# Altium integrated library Xilinx Spartan-3 FPGA.IntLib: 1115 symbols (part 5 of 7)
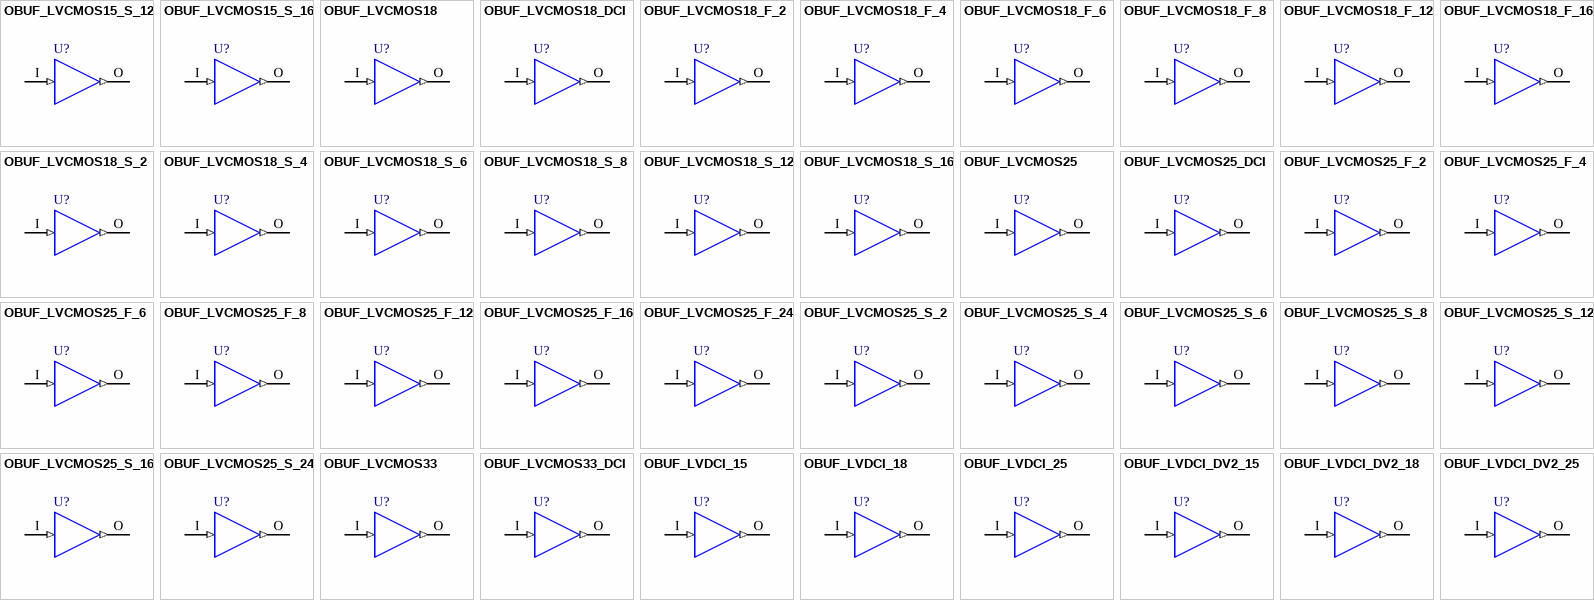
[diagram p32: symbols OBUF_LVCMOS15_S_12 to OBUF_LVDCI_DV2_25]

## OBUF_LVCMOS18_S_2
designator U?
Single Output Buffer with LVCMOS18_S_2 I/O Interface; FPGAVendor: Xilinx; Published: 15-Sep-2003; Publisher: Altium Limited; HelpURL: http://toolbox.xilinx.com/docsan/xilinx7/books/docs/lib/lib.pdf
pins: I (in), O (out)

## OBUF_LVCMOS18_S_4
designator U?
Single Output Buffer with LVCMOS18_S_4 I/O Interface; FPGAVendor: Xilinx; Published: 15-Sep-2003; Publisher: Altium Limited; HelpURL: http://toolbox.xilinx.com/docsan/xilinx7/books/docs/lib/lib.pdf
pins: I (in), O (out)

## OBUF_LVCMOS18_S_6
designator U?
Single Output Buffer with LVCMOS18_S_6 I/O Interface; FPGAVendor: Xilinx; Published: 15-Sep-2003; Publisher: Altium Limited; HelpURL: http://toolbox.xilinx.com/docsan/xilinx7/books/docs/lib/lib.pdf
pins: I (in), O (out)

## OBUF_LVCMOS18_S_8
designator U?
Single Output Buffer with LVCMOS18_S_8 I/O Interface; FPGAVendor: Xilinx; Published: 15-Sep-2003; Publisher: Altium Limited; HelpURL: http://toolbox.xilinx.com/docsan/xilinx7/books/docs/lib/lib.pdf
pins: I (in), O (out)

## OBUF_LVCMOS18_S_12
designator U?
Single Output Buffer with LVCMOS18_S_12 I/O Interface; FPGAVendor: Xilinx; Published: 15-Sep-2003; Publisher: Altium Limited; HelpURL: http://toolbox.xilinx.com/docsan/xilinx7/books/docs/lib/lib.pdf
pins: I (in), O (out)

## OBUF_LVCMOS18_S_16
designator U?
Single Output Buffer with LVCMOS18_S_16 I/O Interface; FPGAVendor: Xilinx; Published: 15-Sep-2003; Publisher: Altium Limited; HelpURL: http://toolbox.xilinx.com/docsan/xilinx7/books/docs/lib/lib.pdf
pins: I (in), O (out)

## OBUF_LVCMOS25
designator U?
Single Output Buffer with LVCMOS25 I/O Interface; FPGAVendor: Xilinx; Published: 15-Sep-2003; Publisher: Altium Limited; HelpURL: http://toolbox.xilinx.com/docsan/xilinx7/books/docs/lib/lib.pdf
pins: I (in), O (out)

## OBUF_LVCMOS25_DCI
designator U?
Single Output Buffer with Selectable I/O Interface; FPGAVendor: Xilinx; Published: 15-Sep-2008; Publisher: Altium Limited; HelpURL: http://www.xilinx.com/support/documentation/data_sheets/ds099.pdf
pins: I (in), O (out)

## OBUF_LVCMOS25_F_2
designator U?
Single Output Buffer with LVCMOS25_F_2 I/O Interface; FPGAVendor: Xilinx; Published: 15-Sep-2003; Publisher: Altium Limited; HelpURL: http://toolbox.xilinx.com/docsan/xilinx7/books/docs/lib/lib.pdf
pins: I (in), O (out)

## OBUF_LVCMOS25_F_4
designator U?
Single Output Buffer with LVCMOS25_F_4 I/O Interface; FPGAVendor: Xilinx; Published: 15-Sep-2003; Publisher: Altium Limited; HelpURL: http://toolbox.xilinx.com/docsan/xilinx7/books/docs/lib/lib.pdf
pins: I (in), O (out)

## OBUF_LVCMOS25_F_6
designator U?
Single Output Buffer with LVCMOS25_F_6 I/O Interface; FPGAVendor: Xilinx; Published: 15-Sep-2003; Publisher: Altium Limited; HelpURL: http://toolbox.xilinx.com/docsan/xilinx7/books/docs/lib/lib.pdf
pins: I (in), O (out)

## OBUF_LVCMOS25_F_8
designator U?
Single Output Buffer with LVCMOS25_F_8 I/O Interface; FPGAVendor: Xilinx; Published: 15-Sep-2003; Publisher: Altium Limited; HelpURL: http://toolbox.xilinx.com/docsan/xilinx7/books/docs/lib/lib.pdf
pins: I (in), O (out)

## OBUF_LVCMOS25_F_12
designator U?
Single Output Buffer with LVCMOS25_F_12 I/O Interface; FPGAVendor: Xilinx; Published: 15-Sep-2003; Publisher: Altium Limited; HelpURL: http://toolbox.xilinx.com/docsan/xilinx7/books/docs/lib/lib.pdf
pins: I (in), O (out)

## OBUF_LVCMOS25_F_16
designator U?
Single Output Buffer with LVCMOS25_F_16 I/O Interface; FPGAVendor: Xilinx; Published: 15-Sep-2003; Publisher: Altium Limited; HelpURL: http://toolbox.xilinx.com/docsan/xilinx7/books/docs/lib/lib.pdf
pins: I (in), O (out)

## OBUF_LVCMOS25_F_24
designator U?
Single Output Buffer with LVCMOS25_F_24 I/O Interface; FPGAVendor: Xilinx; Published: 15-Sep-2003; Publisher: Altium Limited; HelpURL: http://toolbox.xilinx.com/docsan/xilinx7/books/docs/lib/lib.pdf
pins: I (in), O (out)

## OBUF_LVCMOS25_S_2
designator U?
Single Output Buffer with LVCMOS25_S_2 I/O Interface; FPGAVendor: Xilinx; Published: 15-Sep-2003; Publisher: Altium Limited; HelpURL: http://toolbox.xilinx.com/docsan/xilinx7/books/docs/lib/lib.pdf
pins: I (in), O (out)

## OBUF_LVCMOS25_S_4
designator U?
Single Output Buffer with LVCMOS25_S_4 I/O Interface; FPGAVendor: Xilinx; Published: 15-Sep-2003; Publisher: Altium Limited; HelpURL: http://toolbox.xilinx.com/docsan/xilinx7/books/docs/lib/lib.pdf
pins: I (in), O (out)

## OBUF_LVCMOS25_S_6
designator U?
Single Output Buffer with LVCMOS25_S_6 I/O Interface; FPGAVendor: Xilinx; Published: 15-Sep-2003; Publisher: Altium Limited; HelpURL: http://toolbox.xilinx.com/docsan/xilinx7/books/docs/lib/lib.pdf
pins: I (in), O (out)

## OBUF_LVCMOS25_S_8
designator U?
Single Output Buffer with LVCMOS25_S_8 I/O Interface; FPGAVendor: Xilinx; Published: 15-Sep-2003; Publisher: Altium Limited; HelpURL: http://toolbox.xilinx.com/docsan/xilinx7/books/docs/lib/lib.pdf
pins: I (in), O (out)

## OBUF_LVCMOS25_S_12
designator U?
Single Output Buffer with LVCMOS25_S_12 I/O Interface; FPGAVendor: Xilinx; Published: 15-Sep-2003; Publisher: Altium Limited; HelpURL: http://toolbox.xilinx.com/docsan/xilinx7/books/docs/lib/lib.pdf
pins: I (in), O (out)

## OBUF_LVCMOS25_S_16
designator U?
Single Output Buffer with LVCMOS25_S_16 I/O Interface; FPGAVendor: Xilinx; Published: 15-Sep-2003; Publisher: Altium Limited; HelpURL: http://toolbox.xilinx.com/docsan/xilinx7/books/docs/lib/lib.pdf
pins: I (in), O (out)

## OBUF_LVCMOS25_S_24
designator U?
Single Output Buffer with LVCMOS25_S_24 I/O Interface; FPGAVendor: Xilinx; Published: 15-Sep-2003; Publisher: Altium Limited; HelpURL: http://toolbox.xilinx.com/docsan/xilinx7/books/docs/lib/lib.pdf
pins: I (in), O (out)

## OBUF_LVCMOS33
designator U?
Single Output Buffer with Selectable I/O Interface; FPGAVendor: Xilinx; Published: 15-Sep-2008; Publisher: Altium Limited; HelpURL: http://www.xilinx.com/support/documentation/data_sheets/ds099.pdf
pins: I (in), O (out)

## OBUF_LVCMOS33_DCI
designator U?
Single Output Buffer with Selectable I/O Interface; FPGAVendor: Xilinx; Published: 15-Sep-2008; Publisher: Altium Limited; HelpURL: http://www.xilinx.com/support/documentation/data_sheets/ds099.pdf
pins: I (in), O (out)

## OBUF_LVDCI_15
designator U?
Single Output Buffer with LVDCI_15 I/O Interface; FPGAVendor: Xilinx; Published: 15-Sep-2003; Publisher: Altium Limited; HelpURL: http://toolbox.xilinx.com/docsan/xilinx7/books/docs/lib/lib.pdf
pins: I (in), O (out)

## OBUF_LVDCI_18
designator U?
Single Output Buffer with LVDCI_18 I/O Interface; FPGAVendor: Xilinx; Published: 15-Sep-2003; Publisher: Altium Limited; HelpURL: http://toolbox.xilinx.com/docsan/xilinx7/books/docs/lib/lib.pdf
pins: I (in), O (out)

## OBUF_LVDCI_25
designator U?
Single Output Buffer with LVDCI_25 I/O Interface; FPGAVendor: Xilinx; Published: 15-Sep-2003; Publisher: Altium Limited; HelpURL: http://toolbox.xilinx.com/docsan/xilinx7/books/docs/lib/lib.pdf
pins: I (in), O (out)

## OBUF_LVDCI_DV2_15
designator U?
Single Output Buffer with LVDCI_DV2_15 I/O Interface; FPGAVendor: Xilinx; Published: 15-Sep-2003; Publisher: Altium Limited; HelpURL: http://toolbox.xilinx.com/docsan/xilinx7/books/docs/lib/lib.pdf
pins: I (in), O (out)

## OBUF_LVDCI_DV2_18
designator U?
Single Output Buffer with LVDCI_DV2_18 I/O Interface; FPGAVendor: Xilinx; Published: 15-Sep-2003; Publisher: Altium Limited; HelpURL: http://toolbox.xilinx.com/docsan/xilinx7/books/docs/lib/lib.pdf
pins: I (in), O (out)

## OBUF_LVDCI_DV2_25
designator U?
Single Output Buffer with LVDCI_DV2_25 I/O Interface; FPGAVendor: Xilinx; Published: 15-Sep-2003; Publisher: Altium Limited; HelpURL: http://toolbox.xilinx.com/docsan/xilinx7/books/docs/lib/lib.pdf
pins: I (in), O (out)

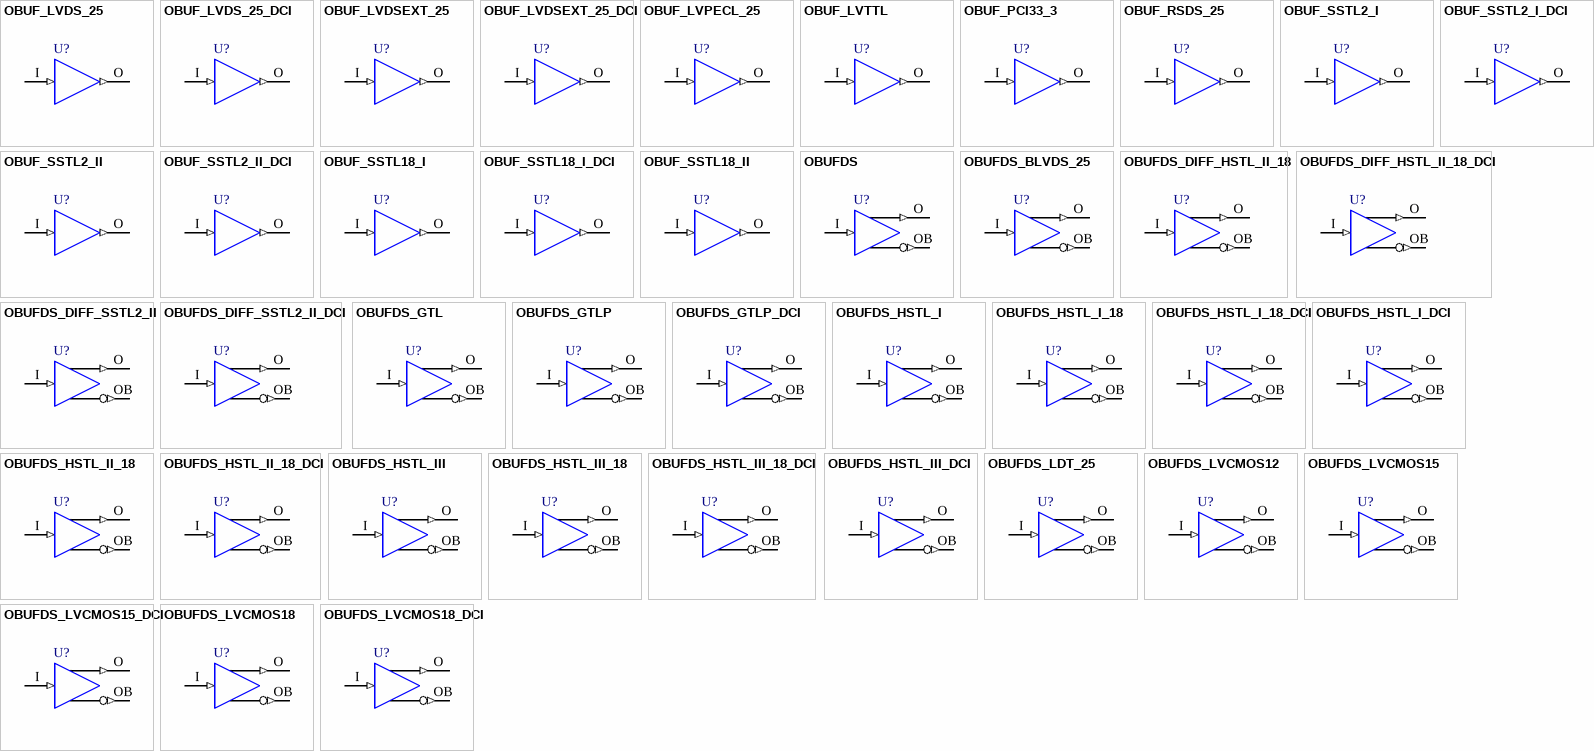
[diagram p19: symbols OBUF_LVDS_25 to OBUFDS_LVCMOS18_DCI]

## OBUF_LVDS_25
designator U?
Single Output Buffer with Selectable I/O Interface; FPGAVendor: Xilinx; Published: 15-Sep-2008; Publisher: Altium Limited; HelpURL: http://www.xilinx.com/support/documentation/data_sheets/ds099.pdf
pins: I (in), O (out)

## OBUF_LVDS_25_DCI
designator U?
Single Output Buffer with Selectable I/O Interface; FPGAVendor: Xilinx; Published: 15-Sep-2008; Publisher: Altium Limited; HelpURL: http://www.xilinx.com/support/documentation/data_sheets/ds099.pdf
pins: I (in), O (out)

## OBUF_LVDSEXT_25
designator U?
Single Output Buffer with Selectable I/O Interface; FPGAVendor: Xilinx; Published: 15-Sep-2008; Publisher: Altium Limited; HelpURL: http://www.xilinx.com/support/documentation/data_sheets/ds099.pdf
pins: I (in), O (out)

## OBUF_LVDSEXT_25_DCI
designator U?
Single Output Buffer with Selectable I/O Interface; FPGAVendor: Xilinx; Published: 15-Sep-2008; Publisher: Altium Limited; HelpURL: http://www.xilinx.com/support/documentation/data_sheets/ds099.pdf
pins: I (in), O (out)

## OBUF_LVPECL_25
designator U?
Single Output Buffer with Selectable I/O Interface; FPGAVendor: Xilinx; Published: 15-Sep-2008; Publisher: Altium Limited; HelpURL: http://www.xilinx.com/support/documentation/data_sheets/ds099.pdf
pins: I (in), O (out)

## OBUF_LVTTL
designator U?
Single Output Buffer with Selectable I/O Interface; FPGAVendor: Xilinx; Published: 15-Sep-2008; Publisher: Altium Limited; HelpURL: http://www.xilinx.com/support/documentation/data_sheets/ds099.pdf
pins: I (in), O (out)

## OBUF_PCI33_3
designator U?
Single Output Buffer with Selectable I/O Interface; FPGAVendor: Xilinx; Published: 15-Sep-2008; Publisher: Altium Limited; HelpURL: http://www.xilinx.com/support/documentation/data_sheets/ds099.pdf
pins: I (in), O (out)

## OBUF_RSDS_25
designator U?
Single Output Buffer with Selectable I/O Interface; FPGAVendor: Xilinx; Published: 15-Sep-2008; Publisher: Altium Limited; HelpURL: http://www.xilinx.com/support/documentation/data_sheets/ds099.pdf
pins: I (in), O (out)

## OBUF_SSTL2_I
designator U?
Single Output Buffer with SSTL2_I I/O Interface; FPGAVendor: Xilinx; Published: 15-Sep-2003; Publisher: Altium Limited; HelpURL: http://toolbox.xilinx.com/docsan/xilinx7/books/docs/lib/lib.pdf
pins: I (in), O (out)

## OBUF_SSTL2_I_DCI
designator U?
Single Output Buffer with SSTL2_I_DCI I/O Interface; FPGAVendor: Xilinx; Published: 15-Sep-2003; Publisher: Altium Limited; HelpURL: http://toolbox.xilinx.com/docsan/xilinx7/books/docs/lib/lib.pdf
pins: I (in), O (out)

## OBUF_SSTL2_II
designator U?
Single Output Buffer with SSTL2_II I/O Interface; FPGAVendor: Xilinx; Published: 15-Sep-2003; Publisher: Altium Limited; HelpURL: http://toolbox.xilinx.com/docsan/xilinx7/books/docs/lib/lib.pdf
pins: I (in), O (out)

## OBUF_SSTL2_II_DCI
designator U?
Single Output Buffer with SSTL2_II_DCI I/O Interface; FPGAVendor: Xilinx; Published: 15-Sep-2003; Publisher: Altium Limited; HelpURL: http://toolbox.xilinx.com/docsan/xilinx7/books/docs/lib/lib.pdf
pins: I (in), O (out)

## OBUF_SSTL18_I
designator U?
Single Output Buffer with SSTL18_I I/O Interface; FPGAVendor: Xilinx; Published: 15-Sep-2003; Publisher: Altium Limited; HelpURL: http://toolbox.xilinx.com/docsan/xilinx7/books/docs/lib/lib.pdf
pins: I (in), O (out)

## OBUF_SSTL18_I_DCI
designator U?
Single Output Buffer with SSTL18_I_DCI I/O Interface; FPGAVendor: Xilinx; Published: 15-Sep-2003; Publisher: Altium Limited; HelpURL: http://toolbox.xilinx.com/docsan/xilinx7/books/docs/lib/lib.pdf
pins: I (in), O (out)

## OBUF_SSTL18_II
designator U?
Single Output Buffer with SSTL18_II I/O Interface; FPGAVendor: Xilinx; Published: 15-Sep-2003; Publisher: Altium Limited; HelpURL: http://toolbox.xilinx.com/docsan/xilinx7/books/docs/lib/lib.pdf
pins: I (in), O (out)

## OBUFDS
designator U?
Differential Signaling Output Buffer with Selectable I/O Interface; FPGAVendor: Xilinx; Published: 20-May-2005; Publisher: Altium Limited; HelpURL: http://toolbox.xilinx.com/docsan/xilinx7/books/docs/lib/lib.pdf
pins: I (in), O (out), OB (out)

## OBUFDS_BLVDS_25
designator U?
Differential Signaling Output Buffer with Selectable I/O Interface; FPGAVendor: Xilinx; Published: 15-Sep-2008; Publisher: Altium Limited; HelpURL: http://www.xilinx.com/support/documentation/data_sheets/ds099.pdf
pins: I (in), O (out), OB (out)

## OBUFDS_DIFF_HSTL_II_18
designator U?
Differential Signaling Output Buffer with Selectable I/O Interface; FPGAVendor: Xilinx; Published: 15-Sep-2008; Publisher: Altium Limited; HelpURL: http://www.xilinx.com/support/documentation/data_sheets/ds099.pdf
pins: I (in), O (out), OB (out)

## OBUFDS_DIFF_HSTL_II_18_DCI
designator U?
Differential Signaling Output Buffer with Selectable I/O Interface; FPGAVendor: Xilinx; Published: 15-Sep-2008; Publisher: Altium Limited; HelpURL: http://www.xilinx.com/support/documentation/data_sheets/ds099.pdf
pins: I (in), O (out), OB (out)

## OBUFDS_DIFF_SSTL2_II
designator U?
Differential Signaling Output Buffer with Selectable I/O Interface; FPGAVendor: Xilinx; Published: 15-Sep-2008; Publisher: Altium Limited; HelpURL: http://www.xilinx.com/support/documentation/data_sheets/ds099.pdf
pins: I (in), O (out), OB (out)

## OBUFDS_DIFF_SSTL2_II_DCI
designator U?
Differential Signaling Output Buffer with Selectable I/O Interface; FPGAVendor: Xilinx; Published: 15-Sep-2008; Publisher: Altium Limited; HelpURL: http://www.xilinx.com/support/documentation/data_sheets/ds099.pdf
pins: I (in), O (out), OB (out)

## OBUFDS_GTL
designator U?
Differential Signaling Output Buffer with Selectable I/O Interface; FPGAVendor: Xilinx; Published: 15-Sep-2008; Publisher: Altium Limited; HelpURL: http://www.xilinx.com/support/documentation/data_sheets/ds099.pdf
pins: I (in), O (out), OB (out)

## OBUFDS_GTLP
designator U?
Differential Signaling Output Buffer with Selectable I/O Interface; FPGAVendor: Xilinx; Published: 15-Sep-2008; Publisher: Altium Limited; HelpURL: http://www.xilinx.com/support/documentation/data_sheets/ds099.pdf
pins: I (in), O (out), OB (out)

## OBUFDS_GTLP_DCI
designator U?
Differential Signaling Output Buffer with Selectable I/O Interface; FPGAVendor: Xilinx; Published: 15-Sep-2008; Publisher: Altium Limited; HelpURL: http://www.xilinx.com/support/documentation/data_sheets/ds099.pdf
pins: I (in), O (out), OB (out)

## OBUFDS_HSTL_I
designator U?
Differential Signaling Output Buffer with Selectable I/O Interface; FPGAVendor: Xilinx; Published: 15-Sep-2008; Publisher: Altium Limited; HelpURL: http://www.xilinx.com/support/documentation/data_sheets/ds099.pdf
pins: I (in), O (out), OB (out)

## OBUFDS_HSTL_I_18
designator U?
Differential Signaling Output Buffer with Selectable I/O Interface; FPGAVendor: Xilinx; Published: 15-Sep-2008; Publisher: Altium Limited; HelpURL: http://www.xilinx.com/support/documentation/data_sheets/ds099.pdf
pins: I (in), O (out), OB (out)

## OBUFDS_HSTL_I_18_DCI
designator U?
Differential Signaling Output Buffer with Selectable I/O Interface; FPGAVendor: Xilinx; Published: 15-Sep-2008; Publisher: Altium Limited; HelpURL: http://www.xilinx.com/support/documentation/data_sheets/ds099.pdf
pins: I (in), O (out), OB (out)

## OBUFDS_HSTL_I_DCI
designator U?
Differential Signaling Output Buffer with Selectable I/O Interface; FPGAVendor: Xilinx; Published: 15-Sep-2008; Publisher: Altium Limited; HelpURL: http://www.xilinx.com/support/documentation/data_sheets/ds099.pdf
pins: I (in), O (out), OB (out)

## OBUFDS_HSTL_II_18
designator U?
Differential Signaling Output Buffer with Selectable I/O Interface; FPGAVendor: Xilinx; Published: 15-Sep-2008; Publisher: Altium Limited; HelpURL: http://www.xilinx.com/support/documentation/data_sheets/ds099.pdf
pins: I (in), O (out), OB (out)

## OBUFDS_HSTL_II_18_DCI
designator U?
Differential Signaling Output Buffer with Selectable I/O Interface; FPGAVendor: Xilinx; Published: 15-Sep-2008; Publisher: Altium Limited; HelpURL: http://www.xilinx.com/support/documentation/data_sheets/ds099.pdf
pins: I (in), O (out), OB (out)

## OBUFDS_HSTL_III
designator U?
Differential Signaling Output Buffer with Selectable I/O Interface; FPGAVendor: Xilinx; Published: 15-Sep-2008; Publisher: Altium Limited; HelpURL: http://www.xilinx.com/support/documentation/data_sheets/ds099.pdf
pins: I (in), O (out), OB (out)

## OBUFDS_HSTL_III_18
designator U?
Differential Signaling Output Buffer with Selectable I/O Interface; FPGAVendor: Xilinx; Published: 15-Sep-2008; Publisher: Altium Limited; HelpURL: http://www.xilinx.com/support/documentation/data_sheets/ds099.pdf
pins: I (in), O (out), OB (out)

## OBUFDS_HSTL_III_18_DCI
designator U?
Differential Signaling Output Buffer with Selectable I/O Interface; FPGAVendor: Xilinx; Published: 15-Sep-2008; Publisher: Altium Limited; HelpURL: http://www.xilinx.com/support/documentation/data_sheets/ds099.pdf
pins: I (in), O (out), OB (out)

## OBUFDS_HSTL_III_DCI
designator U?
Differential Signaling Output Buffer with Selectable I/O Interface; FPGAVendor: Xilinx; Published: 15-Sep-2008; Publisher: Altium Limited; HelpURL: http://www.xilinx.com/support/documentation/data_sheets/ds099.pdf
pins: I (in), O (out), OB (out)

## OBUFDS_LDT_25
designator U?
Differential Signaling Output Buffer with LDT_25 I/O Interface; FPGAVendor: Xilinx; Published: 15-Sep-2003; Publisher: Altium Limited; HelpURL: http://toolbox.xilinx.com/docsan/xilinx7/books/docs/lib/lib.pdf
pins: I (in), O (out), OB (out)

## OBUFDS_LVCMOS12
designator U?
Differential Signaling Output Buffer with Selectable I/O Interface; FPGAVendor: Xilinx; Published: 15-Sep-2008; Publisher: Altium Limited; HelpURL: http://www.xilinx.com/support/documentation/data_sheets/ds099.pdf
pins: I (in), O (out), OB (out)

## OBUFDS_LVCMOS15
designator U?
Differential Signaling Output Buffer with Selectable I/O Interface; FPGAVendor: Xilinx; Published: 15-Sep-2008; Publisher: Altium Limited; HelpURL: http://www.xilinx.com/support/documentation/data_sheets/ds099.pdf
pins: I (in), O (out), OB (out)

## OBUFDS_LVCMOS15_DCI
designator U?
Differential Signaling Output Buffer with Selectable I/O Interface; FPGAVendor: Xilinx; Published: 15-Sep-2008; Publisher: Altium Limited; HelpURL: http://www.xilinx.com/support/documentation/data_sheets/ds099.pdf
pins: I (in), O (out), OB (out)

## OBUFDS_LVCMOS18
designator U?
Differential Signaling Output Buffer with Selectable I/O Interface; FPGAVendor: Xilinx; Published: 15-Sep-2008; Publisher: Altium Limited; HelpURL: http://www.xilinx.com/support/documentation/data_sheets/ds099.pdf
pins: I (in), O (out), OB (out)

## OBUFDS_LVCMOS18_DCI
designator U?
Differential Signaling Output Buffer with Selectable I/O Interface; FPGAVendor: Xilinx; Published: 15-Sep-2008; Publisher: Altium Limited; HelpURL: http://www.xilinx.com/support/documentation/data_sheets/ds099.pdf
pins: I (in), O (out), OB (out)

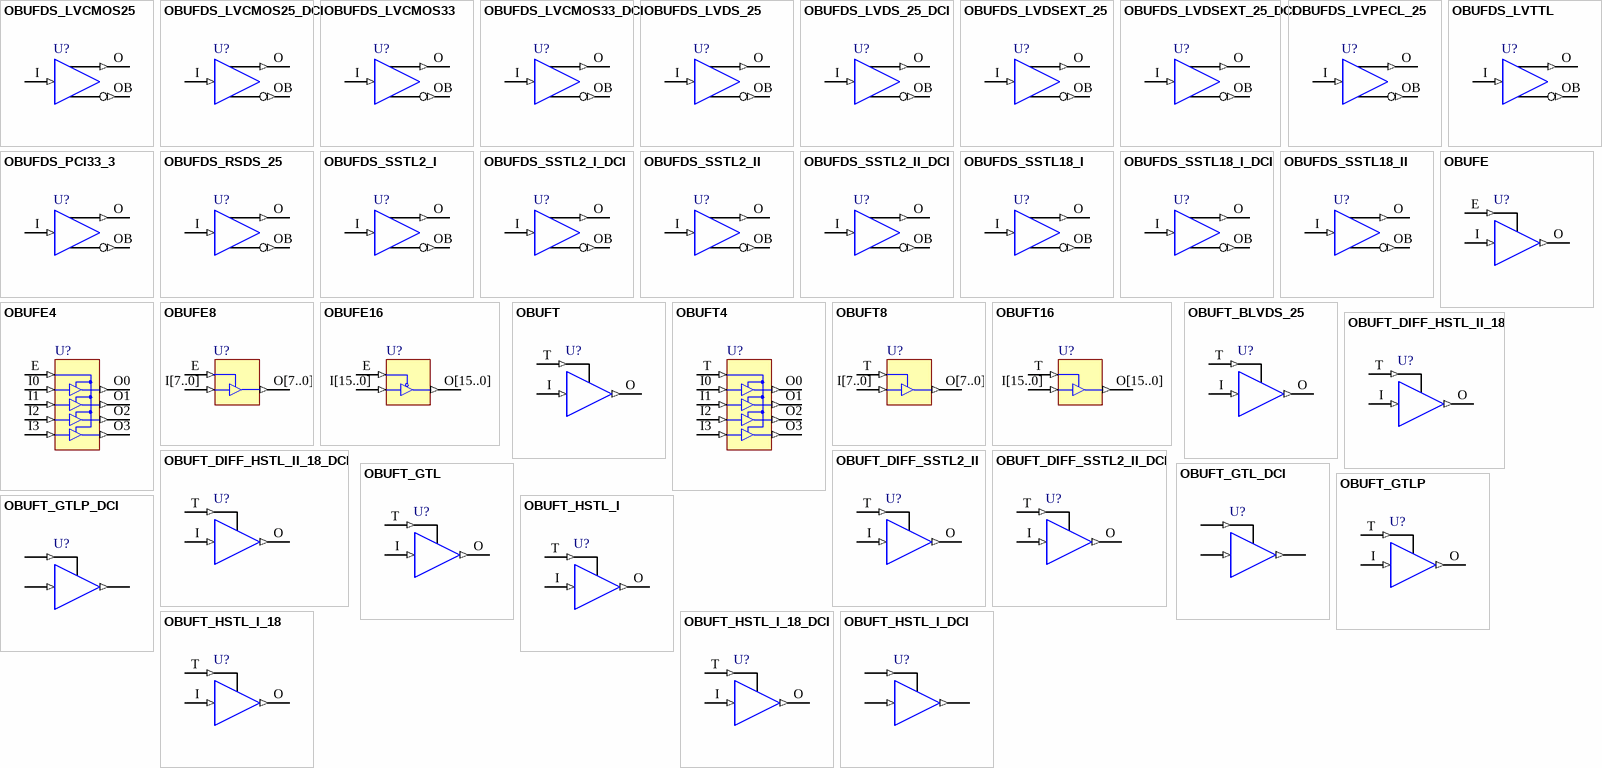
[diagram p20: symbols OBUFDS_LVCMOS25 to OBUFT_HSTL_I_DCI]

## OBUFDS_LVCMOS25
designator U?
Differential Signaling Output Buffer with Selectable I/O Interface; FPGAVendor: Xilinx; Published: 15-Sep-2008; Publisher: Altium Limited; HelpURL: http://www.xilinx.com/support/documentation/data_sheets/ds099.pdf
pins: I (in), O (out), OB (out)

## OBUFDS_LVCMOS25_DCI
designator U?
Differential Signaling Output Buffer with Selectable I/O Interface; FPGAVendor: Xilinx; Published: 15-Sep-2008; Publisher: Altium Limited; HelpURL: http://www.xilinx.com/support/documentation/data_sheets/ds099.pdf
pins: I (in), O (out), OB (out)

## OBUFDS_LVCMOS33
designator U?
Differential Signaling Output Buffer with Selectable I/O Interface; FPGAVendor: Xilinx; Published: 15-Sep-2008; Publisher: Altium Limited; HelpURL: http://www.xilinx.com/support/documentation/data_sheets/ds099.pdf
pins: I (in), O (out), OB (out)

## OBUFDS_LVCMOS33_DCI
designator U?
Differential Signaling Output Buffer with Selectable I/O Interface; FPGAVendor: Xilinx; Published: 15-Sep-2008; Publisher: Altium Limited; HelpURL: http://www.xilinx.com/support/documentation/data_sheets/ds099.pdf
pins: I (in), O (out), OB (out)

## OBUFDS_LVDS_25
designator U?
Differential Signaling Output Buffer with LVDS_25 I/O Interface; FPGAVendor: Xilinx; Published: 15-Sep-2003; Publisher: Altium Limited; HelpURL: http://toolbox.xilinx.com/docsan/xilinx7/books/docs/lib/lib.pdf
pins: I (in), O (out), OB (out)

## OBUFDS_LVDS_25_DCI
designator U?
Differential Signaling Output Buffer with Selectable I/O Interface; FPGAVendor: Xilinx; Published: 15-Sep-2008; Publisher: Altium Limited; HelpURL: http://www.xilinx.com/support/documentation/data_sheets/ds099.pdf
pins: I (in), O (out), OB (out)

## OBUFDS_LVDSEXT_25
designator U?
Differential Signaling Output Buffer with LVDSEXT_25 I/O Interface; FPGAVendor: Xilinx; Published: 15-Sep-2003; Publisher: Altium Limited; HelpURL: http://toolbox.xilinx.com/docsan/xilinx7/books/docs/lib/lib.pdf
pins: I (in), O (out), OB (out)

## OBUFDS_LVDSEXT_25_DCI
designator U?
Differential Signaling Output Buffer with Selectable I/O Interface; FPGAVendor: Xilinx; Published: 15-Sep-2008; Publisher: Altium Limited; HelpURL: http://www.xilinx.com/support/documentation/data_sheets/ds099.pdf
pins: I (in), O (out), OB (out)

## OBUFDS_LVPECL_25
designator U?
Differential Signaling Output Buffer with Selectable I/O Interface; FPGAVendor: Xilinx; Published: 15-Sep-2008; Publisher: Altium Limited; HelpURL: http://www.xilinx.com/support/documentation/data_sheets/ds099.pdf
pins: I (in), O (out), OB (out)

## OBUFDS_LVTTL
designator U?
Differential Signaling Output Buffer with Selectable I/O Interface; FPGAVendor: Xilinx; Published: 15-Sep-2008; Publisher: Altium Limited; HelpURL: http://www.xilinx.com/support/documentation/data_sheets/ds099.pdf
pins: I (in), O (out), OB (out)

## OBUFDS_PCI33_3
designator U?
Differential Signaling Output Buffer with Selectable I/O Interface; FPGAVendor: Xilinx; Published: 15-Sep-2008; Publisher: Altium Limited; HelpURL: http://www.xilinx.com/support/documentation/data_sheets/ds099.pdf
pins: I (in), O (out), OB (out)

## OBUFDS_RSDS_25
designator U?
Differential Signaling Output Buffer with Selectable I/O Interface; FPGAVendor: Xilinx; Published: 15-Sep-2008; Publisher: Altium Limited; HelpURL: http://www.xilinx.com/support/documentation/data_sheets/ds099.pdf
pins: I (in), O (out), OB (out)

## OBUFDS_SSTL2_I
designator U?
Differential Signaling Output Buffer with Selectable I/O Interface; FPGAVendor: Xilinx; Published: 15-Sep-2008; Publisher: Altium Limited; HelpURL: http://www.xilinx.com/support/documentation/data_sheets/ds099.pdf
pins: I (in), O (out), OB (out)

## OBUFDS_SSTL2_I_DCI
designator U?
Differential Signaling Output Buffer with Selectable I/O Interface; FPGAVendor: Xilinx; Published: 15-Sep-2008; Publisher: Altium Limited; HelpURL: http://www.xilinx.com/support/documentation/data_sheets/ds099.pdf
pins: I (in), O (out), OB (out)

## OBUFDS_SSTL2_II
designator U?
Differential Signaling Output Buffer with Selectable I/O Interface; FPGAVendor: Xilinx; Published: 15-Sep-2008; Publisher: Altium Limited; HelpURL: http://www.xilinx.com/support/documentation/data_sheets/ds099.pdf
pins: I (in), O (out), OB (out)

## OBUFDS_SSTL2_II_DCI
designator U?
Differential Signaling Output Buffer with Selectable I/O Interface; FPGAVendor: Xilinx; Published: 15-Sep-2008; Publisher: Altium Limited; HelpURL: http://www.xilinx.com/support/documentation/data_sheets/ds099.pdf
pins: I (in), O (out), OB (out)

## OBUFDS_SSTL18_I
designator U?
Differential Signaling Output Buffer with Selectable I/O Interface; FPGAVendor: Xilinx; Published: 15-Sep-2008; Publisher: Altium Limited; HelpURL: http://www.xilinx.com/support/documentation/data_sheets/ds099.pdf
pins: I (in), O (out), OB (out)

## OBUFDS_SSTL18_I_DCI
designator U?
Differential Signaling Output Buffer with Selectable I/O Interface; FPGAVendor: Xilinx; Published: 15-Sep-2008; Publisher: Altium Limited; HelpURL: http://www.xilinx.com/support/documentation/data_sheets/ds099.pdf
pins: I (in), O (out), OB (out)

## OBUFDS_SSTL18_II
designator U?
Differential Signaling Output Buffer with Selectable I/O Interface; FPGAVendor: Xilinx; Published: 15-Sep-2008; Publisher: Altium Limited; HelpURL: http://www.xilinx.com/support/documentation/data_sheets/ds099.pdf
pins: I (in), O (out), OB (out)

## OBUFE
designator U?
3-State Output Buffer with Active-High Output Enable; FPGAVendor: Xilinx; Published: 15-Sep-2003; Publisher: Altium Limited; HelpURL: http://toolbox.xilinx.com/docsan/xilinx7/books/docs/lib/lib.pdf
pins: E (in), I (in), O (out)

## OBUFE4
designator U?
3-State Output Buffers with Active-High Output Enable; FPGAVendor: Xilinx; Published: 15-Sep-2003; Publisher: Altium Limited; HelpURL: http://toolbox.xilinx.com/docsan/xilinx7/books/docs/lib/lib.pdf
pins: E (in), I0 (in), I1 (in), I2 (in), I3 (in), O0 (out), O1 (out), O2 (out), O3 (out)

## OBUFE8
designator U?
3-State Output Buffers with Active-High Output Enable; FPGAVendor: Xilinx; Published: 15-Sep-2003; Publisher: Altium Limited; HelpURL: http://toolbox.xilinx.com/docsan/xilinx7/books/docs/lib/lib.pdf
pins: E (in), I[7..0] (in), O[7..0] (out)

## OBUFE16
designator U?
3-State Output Buffers with Active-High Output Enable; FPGAVendor: Xilinx; Published: 15-Sep-2003; Publisher: Altium Limited; HelpURL: http://toolbox.xilinx.com/docsan/xilinx7/books/docs/lib/lib.pdf
pins: E (in), I[15..0] (in), O[15..0] (out)

## OBUFT
designator U?
Single 3-State Output Buffer with Active-Low Output Enable; FPGAVendor: Xilinx; Published: 15-Sep-2003; Publisher: Altium Limited; HelpURL: http://toolbox.xilinx.com/docsan/xilinx7/books/docs/lib/lib.pdf
pins: I (in), O (out), T (in)

## OBUFT4
designator U?
Multiple 3-State Output Buffers with Active-Low Output Enable; FPGAVendor: Xilinx; Published: 15-Sep-2003; Publisher: Altium Limited; HelpURL: http://toolbox.xilinx.com/docsan/xilinx7/books/docs/lib/lib.pdf
pins: I0 (in), I1 (in), I2 (in), I3 (in), O0 (out), O1 (out), O2 (out), O3 (out), T (in)

## OBUFT8
designator U?
Multiple 3-State Output Buffers with Active-Low Output Enable; FPGAVendor: Xilinx; Published: 15-Sep-2003; Publisher: Altium Limited; HelpURL: http://toolbox.xilinx.com/docsan/xilinx7/books/docs/lib/lib.pdf
pins: I[7..0] (in), O[7..0] (out), T (in)

## OBUFT16
designator U?
Multiple 3-State Output Buffers with Active-Low Output Enable; FPGAVendor: Xilinx; Published: 15-Sep-2003; Publisher: Altium Limited; HelpURL: http://toolbox.xilinx.com/docsan/xilinx7/books/docs/lib/lib.pdf
pins: I[15..0] (in), O[15..0] (out), T (in)

## OBUFT_BLVDS_25
designator U?
Single 3-State Output Buffer with Active-Low Output Enable and Seletable I/O Interface; FPGAVendor: Xilinx; Published: 15-Sep-2008; Publisher: Altium Limited; HelpURL: http://www.xilinx.com/support/documentation/data_sheets/ds099.pdf
pins: I (in), O (out), T (in)

## OBUFT_DIFF_HSTL_II_18
designator U?
Single 3-State Output Buffer with Active-Low Output Enable and Seletable I/O Interface; FPGAVendor: Xilinx; Published: 15-Sep-2008; Publisher: Altium Limited; HelpURL: http://www.xilinx.com/support/documentation/data_sheets/ds099.pdf
pins: I (in), O (out), T (in)

## OBUFT_DIFF_HSTL_II_18_DCI
designator U?
Single 3-State Output Buffer with Active-Low Output Enable and Seletable I/O Interface; FPGAVendor: Xilinx; Published: 15-Sep-2008; Publisher: Altium Limited; HelpURL: http://www.xilinx.com/support/documentation/data_sheets/ds099.pdf
pins: I (in), O (out), T (in)

## OBUFT_DIFF_SSTL2_II
designator U?
Single 3-State Output Buffer with Active-Low Output Enable and Seletable I/O Interface; FPGAVendor: Xilinx; Published: 15-Sep-2008; Publisher: Altium Limited; HelpURL: http://www.xilinx.com/support/documentation/data_sheets/ds099.pdf
pins: I (in), O (out), T (in)

## OBUFT_DIFF_SSTL2_II_DCI
designator U?
Single 3-State Output Buffer with Active-Low Output Enable and Seletable I/O Interface; FPGAVendor: Xilinx; Published: 15-Sep-2008; Publisher: Altium Limited; HelpURL: http://www.xilinx.com/support/documentation/data_sheets/ds099.pdf
pins: I (in), O (out), T (in)

## OBUFT_GTL
designator U?
Single 3-State Output Buffer with Active-Low Output Enable and GTL I/O Interface; FPGAVendor: Xilinx; Published: 15-Sep-2003; Publisher: Altium Limited; HelpURL: http://toolbox.xilinx.com/docsan/xilinx7/books/docs/lib/lib.pdf
pins: I (in), O (out), T (in)

## OBUFT_GTL_DCI
designator U?
Single 3-State Output Buffer with Active-Low Output Enable and GTL_DCI I/O Interface; FPGAVendor: Xilinx; Published: 15-Sep-2003; Publisher: Altium Limited; HelpURL: http://toolbox.xilinx.com/docsan/xilinx7/books/docs/lib/lib.pdf
pins: I (in), O (out), T (in)

## OBUFT_GTLP
designator U?
Single 3-State Output Buffer with Active-Low Output Enable and GTLP I/O Interface; FPGAVendor: Xilinx; Published: 15-Sep-2003; Publisher: Altium Limited; HelpURL: http://toolbox.xilinx.com/docsan/xilinx7/books/docs/lib/lib.pdf
pins: I (in), O (out), T (in)

## OBUFT_GTLP_DCI
designator U?
Single 3-State Output Buffer with Active-Low Output Enable and GTLP_DCI I/O Interface; FPGAVendor: Xilinx; Published: 15-Sep-2003; Publisher: Altium Limited; HelpURL: http://toolbox.xilinx.com/docsan/xilinx7/books/docs/lib/lib.pdf
pins: I (in), O (out), T (in)

## OBUFT_HSTL_I
designator U?
Single 3-State Output Buffer with Active-Low Output Enable and HSTL_I I/O Interface; FPGAVendor: Xilinx; Published: 15-Sep-2003; Publisher: Altium Limited; HelpURL: http://toolbox.xilinx.com/docsan/xilinx7/books/docs/lib/lib.pdf
pins: I (in), O (out), T (in)

## OBUFT_HSTL_I_18
designator U?
Single 3-State Output Buffer with Active-Low Output Enable and HSTL_I_18 I/O Interface; FPGAVendor: Xilinx; Published: 15-Sep-2003; Publisher: Altium Limited; HelpURL: http://toolbox.xilinx.com/docsan/xilinx7/books/docs/lib/lib.pdf
pins: I (in), O (out), T (in)

## OBUFT_HSTL_I_18_DCI
designator U?
Single 3-State Output Buffer with Active-Low Output Enable and Seletable I/O Interface; FPGAVendor: Xilinx; Published: 15-Sep-2008; Publisher: Altium Limited; HelpURL: http://www.xilinx.com/support/documentation/data_sheets/ds099.pdf
pins: I (in), O (out), T (in)

## OBUFT_HSTL_I_DCI
designator U?
Single 3-State Output Buffer with Active-Low Output Enable and HSTL_I_DCI I/O Interface; FPGAVendor: Xilinx; Published: 15-Sep-2003; Publisher: Altium Limited; HelpURL: http://toolbox.xilinx.com/docsan/xilinx7/books/docs/lib/lib.pdf
pins: I (in), O (out), T (in)

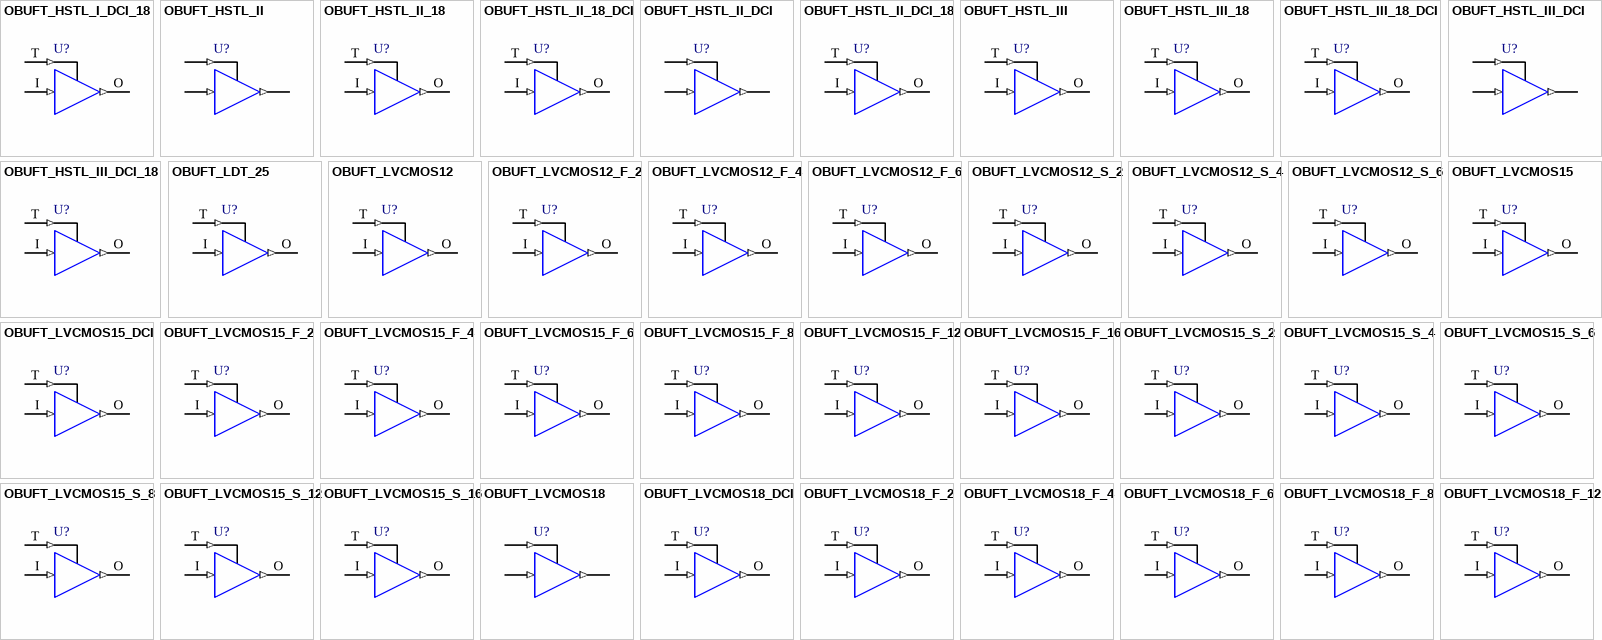
[diagram p21: symbols OBUFT_HSTL_I_DCI_18 to OBUFT_LVCMOS18_F_12]

## OBUFT_HSTL_I_DCI_18
designator U?
Single 3-State Output Buffer with Active-Low Output Enable and HSTL_I_DCI_18 I/O Interface; FPGAVendor: Xilinx; Published: 15-Sep-2003; Publisher: Altium Limited; HelpURL: http://toolbox.xilinx.com/docsan/xilinx7/books/docs/lib/lib.pdf
pins: I (in), O (out), T (in)

## OBUFT_HSTL_II
designator U?
Single 3-State Output Buffer with Active-Low Output Enable and HSTL_II I/O Interface; FPGAVendor: Xilinx; Published: 15-Sep-2003; Publisher: Altium Limited; HelpURL: http://toolbox.xilinx.com/docsan/xilinx7/books/docs/lib/lib.pdf
pins: I (in), O (out), T (in)

## OBUFT_HSTL_II_18
designator U?
Single 3-State Output Buffer with Active-Low Output Enable and HSTL_II_18 I/O Interface; FPGAVendor: Xilinx; Published: 15-Sep-2003; Publisher: Altium Limited; HelpURL: http://toolbox.xilinx.com/docsan/xilinx7/books/docs/lib/lib.pdf
pins: I (in), O (out), T (in)

## OBUFT_HSTL_II_18_DCI
designator U?
Single 3-State Output Buffer with Active-Low Output Enable and Seletable I/O Interface; FPGAVendor: Xilinx; Published: 15-Sep-2008; Publisher: Altium Limited; HelpURL: http://www.xilinx.com/support/documentation/data_sheets/ds099.pdf
pins: I (in), O (out), T (in)

## OBUFT_HSTL_II_DCI
designator U?
Single 3-State Output Buffer with Active-Low Output Enable and HSTL_II_DCI I/O Interface; FPGAVendor: Xilinx; Published: 15-Sep-2003; Publisher: Altium Limited; HelpURL: http://toolbox.xilinx.com/docsan/xilinx7/books/docs/lib/lib.pdf
pins: I (in), O (out), T (in)

## OBUFT_HSTL_II_DCI_18
designator U?
Single 3-State Output Buffer with Active-Low Output Enable and HSTL_II_DCI_18 I/O Interface; FPGAVendor: Xilinx; Published: 15-Sep-2003; Publisher: Altium Limited; HelpURL: http://toolbox.xilinx.com/docsan/xilinx7/books/docs/lib/lib.pdf
pins: I (in), O (out), T (in)

## OBUFT_HSTL_III
designator U?
Single 3-State Output Buffer with Active-Low Output Enable and HSTL_III I/O Interface; FPGAVendor: Xilinx; Published: 15-Sep-2003; Publisher: Altium Limited; HelpURL: http://toolbox.xilinx.com/docsan/xilinx7/books/docs/lib/lib.pdf
pins: I (in), O (out), T (in)

## OBUFT_HSTL_III_18
designator U?
Single 3-State Output Buffer with Active-Low Output Enable and HSTL_III_18 I/O Interface; FPGAVendor: Xilinx; Published: 15-Sep-2003; Publisher: Altium Limited; HelpURL: http://toolbox.xilinx.com/docsan/xilinx7/books/docs/lib/lib.pdf
pins: I (in), O (out), T (in)

## OBUFT_HSTL_III_18_DCI
designator U?
Single 3-State Output Buffer with Active-Low Output Enable and Seletable I/O Interface; FPGAVendor: Xilinx; Published: 15-Sep-2008; Publisher: Altium Limited; HelpURL: http://www.xilinx.com/support/documentation/data_sheets/ds099.pdf
pins: I (in), O (out), T (in)

## OBUFT_HSTL_III_DCI
designator U?
Single 3-State Output Buffer with Active-Low Output Enable and HSTL_III_DCI I/O Interface; FPGAVendor: Xilinx; Published: 15-Sep-2003; Publisher: Altium Limited; HelpURL: http://toolbox.xilinx.com/docsan/xilinx7/books/docs/lib/lib.pdf
pins: I (in), O (out), T (in)

## OBUFT_HSTL_III_DCI_18
designator U?
Single 3-State Output Buffer with Active-Low Output Enable and HSTL_III_DCI_18 I/O Interface; FPGAVendor: Xilinx; Published: 15-Sep-2003; Publisher: Altium Limited; HelpURL: http://toolbox.xilinx.com/docsan/xilinx7/books/docs/lib/lib.pdf
pins: I (in), O (out), T (in)

## OBUFT_LDT_25
designator U?
Single 3-State Output Buffer with Active-Low Output Enable and Seletable I/O Interface; FPGAVendor: Xilinx; Published: 15-Sep-2008; Publisher: Altium Limited; HelpURL: http://www.xilinx.com/support/documentation/data_sheets/ds099.pdf
pins: I (in), O (out), T (in)

## OBUFT_LVCMOS12
designator U?
Single 3-State Output Buffer with Active-Low Output Enable and LVCMOS12 I/O Interface; FPGAVendor: Xilinx; Published: 15-Sep-2003; Publisher: Altium Limited; HelpURL: http://toolbox.xilinx.com/docsan/xilinx7/books/docs/lib/lib.pdf
pins: I (in), O (out), T (in)

## OBUFT_LVCMOS12_F_2
designator U?
Single 3-State Output Buffer with Active-Low Output Enable and LVCMOS12_F_2  I/O Interface; FPGAVendor: Xilinx; Published: 15-Sep-2003; Publisher: Altium Limited; HelpURL: http://toolbox.xilinx.com/docsan/xilinx7/books/docs/lib/lib.pdf
pins: I (in), O (out), T (in)

## OBUFT_LVCMOS12_F_4
designator U?
Single 3-State Output Buffer with Active-Low Output Enable and LVCMOS12_F_4  I/O Interface; FPGAVendor: Xilinx; Published: 15-Sep-2003; Publisher: Altium Limited; HelpURL: http://toolbox.xilinx.com/docsan/xilinx7/books/docs/lib/lib.pdf
pins: I (in), O (out), T (in)

## OBUFT_LVCMOS12_F_6
designator U?
Single 3-State Output Buffer with Active-Low Output Enable and LVCMOS12_F_6  I/O Interface; FPGAVendor: Xilinx; Published: 15-Sep-2003; Publisher: Altium Limited; HelpURL: http://toolbox.xilinx.com/docsan/xilinx7/books/docs/lib/lib.pdf
pins: I (in), O (out), T (in)

## OBUFT_LVCMOS12_S_2
designator U?
Single 3-State Output Buffer with Active-Low Output Enable and LVCMOS12_S_2  I/O Interface; FPGAVendor: Xilinx; Published: 15-Sep-2003; Publisher: Altium Limited; HelpURL: http://toolbox.xilinx.com/docsan/xilinx7/books/docs/lib/lib.pdf
pins: I (in), O (out), T (in)

## OBUFT_LVCMOS12_S_4
designator U?
Single 3-State Output Buffer with Active-Low Output Enable and LVCMOS12_S_4  I/O Interface; FPGAVendor: Xilinx; Published: 15-Sep-2003; Publisher: Altium Limited; HelpURL: http://toolbox.xilinx.com/docsan/xilinx7/books/docs/lib/lib.pdf
pins: I (in), O (out), T (in)

## OBUFT_LVCMOS12_S_6
designator U?
Single 3-State Output Buffer with Active-Low Output Enable and LVCMOS12_S_6  I/O Interface; FPGAVendor: Xilinx; Published: 15-Sep-2003; Publisher: Altium Limited; HelpURL: http://toolbox.xilinx.com/docsan/xilinx7/books/docs/lib/lib.pdf
pins: I (in), O (out), T (in)

## OBUFT_LVCMOS15
designator U?
Single 3-State Output Buffer with Active-Low Output Enable and LVCMOS15 I/O Interface; FPGAVendor: Xilinx; Published: 15-Sep-2003; Publisher: Altium Limited; HelpURL: http://toolbox.xilinx.com/docsan/xilinx7/books/docs/lib/lib.pdf
pins: I (in), O (out), T (in)

## OBUFT_LVCMOS15_DCI
designator U?
Single 3-State Output Buffer with Active-Low Output Enable and Seletable I/O Interface; FPGAVendor: Xilinx; Published: 15-Sep-2008; Publisher: Altium Limited; HelpURL: http://www.xilinx.com/support/documentation/data_sheets/ds099.pdf
pins: I (in), O (out), T (in)

## OBUFT_LVCMOS15_F_2
designator U?
Single 3-State Output Buffer with Active-Low Output Enable and LVCMOS15_F_2  I/O Interface; FPGAVendor: Xilinx; Published: 15-Sep-2003; Publisher: Altium Limited; HelpURL: http://toolbox.xilinx.com/docsan/xilinx7/books/docs/lib/lib.pdf
pins: I (in), O (out), T (in)

## OBUFT_LVCMOS15_F_4
designator U?
Single 3-State Output Buffer with Active-Low Output Enable and LVCMOS15_F_4  I/O Interface; FPGAVendor: Xilinx; Published: 15-Sep-2003; Publisher: Altium Limited; HelpURL: http://toolbox.xilinx.com/docsan/xilinx7/books/docs/lib/lib.pdf
pins: I (in), O (out), T (in)

## OBUFT_LVCMOS15_F_6
designator U?
Single 3-State Output Buffer with Active-Low Output Enable and LVCMOS15_F_6  I/O Interface; FPGAVendor: Xilinx; Published: 15-Sep-2003; Publisher: Altium Limited; HelpURL: http://toolbox.xilinx.com/docsan/xilinx7/books/docs/lib/lib.pdf
pins: I (in), O (out), T (in)

## OBUFT_LVCMOS15_F_8
designator U?
Single 3-State Output Buffer with Active-Low Output Enable and LVCMOS15_F_8  I/O Interface; FPGAVendor: Xilinx; Published: 15-Sep-2003; Publisher: Altium Limited; HelpURL: http://toolbox.xilinx.com/docsan/xilinx7/books/docs/lib/lib.pdf
pins: I (in), O (out), T (in)

## OBUFT_LVCMOS15_F_12
designator U?
Single 3-State Output Buffer with Active-Low Output Enable and LVCMOS15_F_12  I/O Interface; FPGAVendor: Xilinx; Published: 15-Sep-2003; Publisher: Altium Limited; HelpURL: http://toolbox.xilinx.com/docsan/xilinx7/books/docs/lib/lib.pdf
pins: I (in), O (out), T (in)

## OBUFT_LVCMOS15_F_16
designator U?
Single 3-State Output Buffer with Active-Low Output Enable and LVCMOS15_F_16  I/O Interface; FPGAVendor: Xilinx; Published: 15-Sep-2003; Publisher: Altium Limited; HelpURL: http://toolbox.xilinx.com/docsan/xilinx7/books/docs/lib/lib.pdf
pins: I (in), O (out), T (in)

## OBUFT_LVCMOS15_S_2
designator U?
Single 3-State Output Buffer with Active-Low Output Enable and LVCMOS15_S_2  I/O Interface; FPGAVendor: Xilinx; Published: 15-Sep-2003; Publisher: Altium Limited; HelpURL: http://toolbox.xilinx.com/docsan/xilinx7/books/docs/lib/lib.pdf
pins: I (in), O (out), T (in)

## OBUFT_LVCMOS15_S_4
designator U?
Single 3-State Output Buffer with Active-Low Output Enable and LVCMOS15_S_4  I/O Interface; FPGAVendor: Xilinx; Published: 15-Sep-2003; Publisher: Altium Limited; HelpURL: http://toolbox.xilinx.com/docsan/xilinx7/books/docs/lib/lib.pdf
pins: I (in), O (out), T (in)

## OBUFT_LVCMOS15_S_6
designator U?
Single 3-State Output Buffer with Active-Low Output Enable and LVCMOS15_S_6  I/O Interface; FPGAVendor: Xilinx; Published: 15-Sep-2003; Publisher: Altium Limited; HelpURL: http://toolbox.xilinx.com/docsan/xilinx7/books/docs/lib/lib.pdf
pins: I (in), O (out), T (in)

## OBUFT_LVCMOS15_S_8
designator U?
Single 3-State Output Buffer with Active-Low Output Enable and LVCMOS15_S_8  I/O Interface; FPGAVendor: Xilinx; Published: 15-Sep-2003; Publisher: Altium Limited; HelpURL: http://toolbox.xilinx.com/docsan/xilinx7/books/docs/lib/lib.pdf
pins: I (in), O (out), T (in)

## OBUFT_LVCMOS15_S_12
designator U?
Single 3-State Output Buffer with Active-Low Output Enable and LVCMOS15_S_12  I/O Interface; FPGAVendor: Xilinx; Published: 15-Sep-2003; Publisher: Altium Limited; HelpURL: http://toolbox.xilinx.com/docsan/xilinx7/books/docs/lib/lib.pdf
pins: I (in), O (out), T (in)

## OBUFT_LVCMOS15_S_16
designator U?
Single 3-State Output Buffer with Active-Low Output Enable and LVCMOS15_S_16  I/O Interface; FPGAVendor: Xilinx; Published: 15-Sep-2003; Publisher: Altium Limited; HelpURL: http://toolbox.xilinx.com/docsan/xilinx7/books/docs/lib/lib.pdf
pins: I (in), O (out), T (in)

## OBUFT_LVCMOS18
designator U?
Single 3-State Output Buffer with Active-Low Output Enable and LVCMOS18 I/O Interface; FPGAVendor: Xilinx; Published: 15-Sep-2003; Publisher: Altium Limited; HelpURL: http://toolbox.xilinx.com/docsan/xilinx7/books/docs/lib/lib.pdf
pins: I (in), O (out), T (in)

## OBUFT_LVCMOS18_DCI
designator U?
Single 3-State Output Buffer with Active-Low Output Enable and Seletable I/O Interface; FPGAVendor: Xilinx; Published: 15-Sep-2008; Publisher: Altium Limited; HelpURL: http://www.xilinx.com/support/documentation/data_sheets/ds099.pdf
pins: I (in), O (out), T (in)

## OBUFT_LVCMOS18_F_2
designator U?
Single 3-State Output Buffer with Active-Low Output Enable and LVCMOS18_F_2  I/O Interface; FPGAVendor: Xilinx; Published: 15-Sep-2003; Publisher: Altium Limited; HelpURL: http://toolbox.xilinx.com/docsan/xilinx7/books/docs/lib/lib.pdf
pins: I (in), O (out), T (in)

## OBUFT_LVCMOS18_F_4
designator U?
Single 3-State Output Buffer with Active-Low Output Enable and LVCMOS18_F_4  I/O Interface; FPGAVendor: Xilinx; Published: 15-Sep-2003; Publisher: Altium Limited; HelpURL: http://toolbox.xilinx.com/docsan/xilinx7/books/docs/lib/lib.pdf
pins: I (in), O (out), T (in)

## OBUFT_LVCMOS18_F_6
designator U?
Single 3-State Output Buffer with Active-Low Output Enable and LVCMOS18_F_6  I/O Interface; FPGAVendor: Xilinx; Published: 15-Sep-2003; Publisher: Altium Limited; HelpURL: http://toolbox.xilinx.com/docsan/xilinx7/books/docs/lib/lib.pdf
pins: I (in), O (out), T (in)

## OBUFT_LVCMOS18_F_8
designator U?
Single 3-State Output Buffer with Active-Low Output Enable and LVCMOS18_F_8  I/O Interface; FPGAVendor: Xilinx; Published: 15-Sep-2003; Publisher: Altium Limited; HelpURL: http://toolbox.xilinx.com/docsan/xilinx7/books/docs/lib/lib.pdf
pins: I (in), O (out), T (in)

## OBUFT_LVCMOS18_F_12
designator U?
Single 3-State Output Buffer with Active-Low Output Enable and LVCMOS18_F_12  I/O Interface; FPGAVendor: Xilinx; Published: 15-Sep-2003; Publisher: Altium Limited; HelpURL: http://toolbox.xilinx.com/docsan/xilinx7/books/docs/lib/lib.pdf
pins: I (in), O (out), T (in)

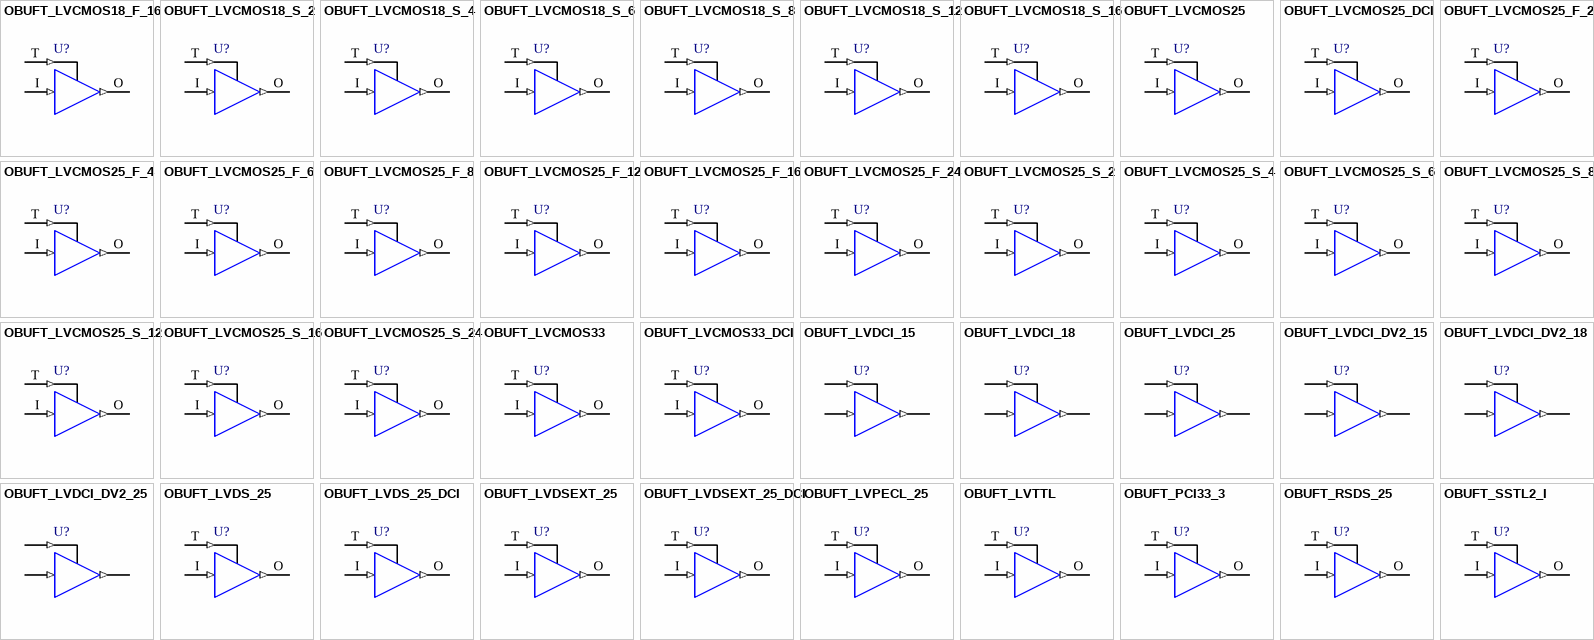
[diagram p22: symbols OBUFT_LVCMOS18_F_16 to OBUFT_SSTL2_I]

## OBUFT_LVCMOS18_F_16
designator U?
Single 3-State Output Buffer with Active-Low Output Enable and LVCMOS18_F_16  I/O Interface; FPGAVendor: Xilinx; Published: 15-Sep-2003; Publisher: Altium Limited; HelpURL: http://toolbox.xilinx.com/docsan/xilinx7/books/docs/lib/lib.pdf
pins: I (in), O (out), T (in)

## OBUFT_LVCMOS18_S_2
designator U?
Single 3-State Output Buffer with Active-Low Output Enable and LVCMOS18_S_2  I/O Interface; FPGAVendor: Xilinx; Published: 15-Sep-2003; Publisher: Altium Limited; HelpURL: http://toolbox.xilinx.com/docsan/xilinx7/books/docs/lib/lib.pdf
pins: I (in), O (out), T (in)

## OBUFT_LVCMOS18_S_4
designator U?
Single 3-State Output Buffer with Active-Low Output Enable and LVCMOS18_S_4  I/O Interface; FPGAVendor: Xilinx; Published: 15-Sep-2003; Publisher: Altium Limited; HelpURL: http://toolbox.xilinx.com/docsan/xilinx7/books/docs/lib/lib.pdf
pins: I (in), O (out), T (in)

## OBUFT_LVCMOS18_S_6
designator U?
Single 3-State Output Buffer with Active-Low Output Enable and LVCMOS18_S_6  I/O Interface; FPGAVendor: Xilinx; Published: 15-Sep-2003; Publisher: Altium Limited; HelpURL: http://toolbox.xilinx.com/docsan/xilinx7/books/docs/lib/lib.pdf
pins: I (in), O (out), T (in)

## OBUFT_LVCMOS18_S_8
designator U?
Single 3-State Output Buffer with Active-Low Output Enable and LVCMOS18_S_8  I/O Interface; FPGAVendor: Xilinx; Published: 15-Sep-2003; Publisher: Altium Limited; HelpURL: http://toolbox.xilinx.com/docsan/xilinx7/books/docs/lib/lib.pdf
pins: I (in), O (out), T (in)

## OBUFT_LVCMOS18_S_12
designator U?
Single 3-State Output Buffer with Active-Low Output Enable and LVCMOS18_S_12  I/O Interface; FPGAVendor: Xilinx; Published: 15-Sep-2003; Publisher: Altium Limited; HelpURL: http://toolbox.xilinx.com/docsan/xilinx7/books/docs/lib/lib.pdf
pins: I (in), O (out), T (in)

## OBUFT_LVCMOS18_S_16
designator U?
Single 3-State Output Buffer with Active-Low Output Enable and LVCMOS18_S_16  I/O Interface; FPGAVendor: Xilinx; Published: 15-Sep-2003; Publisher: Altium Limited; HelpURL: http://toolbox.xilinx.com/docsan/xilinx7/books/docs/lib/lib.pdf
pins: I (in), O (out), T (in)

## OBUFT_LVCMOS25
designator U?
Single 3-State Output Buffer with Active-Low Output Enable and LVCMOS25 I/O Interface; FPGAVendor: Xilinx; Published: 15-Sep-2003; Publisher: Altium Limited; HelpURL: http://toolbox.xilinx.com/docsan/xilinx7/books/docs/lib/lib.pdf
pins: I (in), O (out), T (in)

## OBUFT_LVCMOS25_DCI
designator U?
Single 3-State Output Buffer with Active-Low Output Enable and Seletable I/O Interface; FPGAVendor: Xilinx; Published: 15-Sep-2008; Publisher: Altium Limited; HelpURL: http://www.xilinx.com/support/documentation/data_sheets/ds099.pdf
pins: I (in), O (out), T (in)

## OBUFT_LVCMOS25_F_2
designator U?
Single 3-State Output Buffer with Active-Low Output Enable and LVCMOS25_F_2  I/O Interface; FPGAVendor: Xilinx; Published: 15-Sep-2003; Publisher: Altium Limited; HelpURL: http://toolbox.xilinx.com/docsan/xilinx7/books/docs/lib/lib.pdf
pins: I (in), O (out), T (in)

## OBUFT_LVCMOS25_F_4
designator U?
Single 3-State Output Buffer with Active-Low Output Enable and LVCMOS25_F_4  I/O Interface; FPGAVendor: Xilinx; Published: 15-Sep-2003; Publisher: Altium Limited; HelpURL: http://toolbox.xilinx.com/docsan/xilinx7/books/docs/lib/lib.pdf
pins: I (in), O (out), T (in)

## OBUFT_LVCMOS25_F_6
designator U?
Single 3-State Output Buffer with Active-Low Output Enable and LVCMOS25_F_6  I/O Interface; FPGAVendor: Xilinx; Published: 15-Sep-2003; Publisher: Altium Limited; HelpURL: http://toolbox.xilinx.com/docsan/xilinx7/books/docs/lib/lib.pdf
pins: I (in), O (out), T (in)

## OBUFT_LVCMOS25_F_8
designator U?
Single 3-State Output Buffer with Active-Low Output Enable and LVCMOS25_F_8  I/O Interface; FPGAVendor: Xilinx; Published: 15-Sep-2003; Publisher: Altium Limited; HelpURL: http://toolbox.xilinx.com/docsan/xilinx7/books/docs/lib/lib.pdf
pins: I (in), O (out), T (in)

## OBUFT_LVCMOS25_F_12
designator U?
Single 3-State Output Buffer with Active-Low Output Enable and LVCMOS25_F_12  I/O Interface; FPGAVendor: Xilinx; Published: 15-Sep-2003; Publisher: Altium Limited; HelpURL: http://toolbox.xilinx.com/docsan/xilinx7/books/docs/lib/lib.pdf
pins: I (in), O (out), T (in)

## OBUFT_LVCMOS25_F_16
designator U?
Single 3-State Output Buffer with Active-Low Output Enable and LVCMOS25_F_16  I/O Interface; FPGAVendor: Xilinx; Published: 15-Sep-2003; Publisher: Altium Limited; HelpURL: http://toolbox.xilinx.com/docsan/xilinx7/books/docs/lib/lib.pdf
pins: I (in), O (out), T (in)

## OBUFT_LVCMOS25_F_24
designator U?
Single 3-State Output Buffer with Active-Low Output Enable and LVCMOS25_F_24  I/O Interface; FPGAVendor: Xilinx; Published: 15-Sep-2003; Publisher: Altium Limited; HelpURL: http://toolbox.xilinx.com/docsan/xilinx7/books/docs/lib/lib.pdf
pins: I (in), O (out), T (in)

## OBUFT_LVCMOS25_S_2
designator U?
Single 3-State Output Buffer with Active-Low Output Enable and LVCMOS25_S_2  I/O Interface; FPGAVendor: Xilinx; Published: 15-Sep-2003; Publisher: Altium Limited; HelpURL: http://toolbox.xilinx.com/docsan/xilinx7/books/docs/lib/lib.pdf
pins: I (in), O (out), T (in)

## OBUFT_LVCMOS25_S_4
designator U?
Single 3-State Output Buffer with Active-Low Output Enable and LVCMOS25_S_4  I/O Interface; FPGAVendor: Xilinx; Published: 15-Sep-2003; Publisher: Altium Limited; HelpURL: http://toolbox.xilinx.com/docsan/xilinx7/books/docs/lib/lib.pdf
pins: I (in), O (out), T (in)

## OBUFT_LVCMOS25_S_6
designator U?
Single 3-State Output Buffer with Active-Low Output Enable and LVCMOS25_S_6  I/O Interface; FPGAVendor: Xilinx; Published: 15-Sep-2003; Publisher: Altium Limited; HelpURL: http://toolbox.xilinx.com/docsan/xilinx7/books/docs/lib/lib.pdf
pins: I (in), O (out), T (in)

## OBUFT_LVCMOS25_S_8
designator U?
Single 3-State Output Buffer with Active-Low Output Enable and LVCMOS25_S_8  I/O Interface; FPGAVendor: Xilinx; Published: 15-Sep-2003; Publisher: Altium Limited; HelpURL: http://toolbox.xilinx.com/docsan/xilinx7/books/docs/lib/lib.pdf
pins: I (in), O (out), T (in)

## OBUFT_LVCMOS25_S_12
designator U?
Single 3-State Output Buffer with Active-Low Output Enable and LVCMOS25_S_12  I/O Interface; FPGAVendor: Xilinx; Published: 15-Sep-2003; Publisher: Altium Limited; HelpURL: http://toolbox.xilinx.com/docsan/xilinx7/books/docs/lib/lib.pdf
pins: I (in), O (out), T (in)

## OBUFT_LVCMOS25_S_16
designator U?
Single 3-State Output Buffer with Active-Low Output Enable and LVCMOS25_S_16  I/O Interface; FPGAVendor: Xilinx; Published: 15-Sep-2003; Publisher: Altium Limited; HelpURL: http://toolbox.xilinx.com/docsan/xilinx7/books/docs/lib/lib.pdf
pins: I (in), O (out), T (in)

## OBUFT_LVCMOS25_S_24
designator U?
Single 3-State Output Buffer with Active-Low Output Enable and LVCMOS25_S_24  I/O Interface; FPGAVendor: Xilinx; Published: 15-Sep-2003; Publisher: Altium Limited; HelpURL: http://toolbox.xilinx.com/docsan/xilinx7/books/docs/lib/lib.pdf
pins: I (in), O (out), T (in)

## OBUFT_LVCMOS33
designator U?
Single 3-State Output Buffer with Active-Low Output Enable and Seletable I/O Interface; FPGAVendor: Xilinx; Published: 15-Sep-2008; Publisher: Altium Limited; HelpURL: http://www.xilinx.com/support/documentation/data_sheets/ds099.pdf
pins: I (in), O (out), T (in)

## OBUFT_LVCMOS33_DCI
designator U?
Single 3-State Output Buffer with Active-Low Output Enable and Seletable I/O Interface; FPGAVendor: Xilinx; Published: 15-Sep-2008; Publisher: Altium Limited; HelpURL: http://www.xilinx.com/support/documentation/data_sheets/ds099.pdf
pins: I (in), O (out), T (in)